# Altium schematic symbol library Caps.SchLib: 1 symbol
Pins are listed as number, name and electrical type; pins without a type are passive.

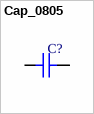
[diagram p0: symbol Cap_0805]

## Cap_0805
designator C?
Cap 0805
footprint 0805
pins: 1, 2